# Altium integrated library rcl.IntLib: 40 symbols
Pins are listed as number, name and electrical type; pins without a type are passive.

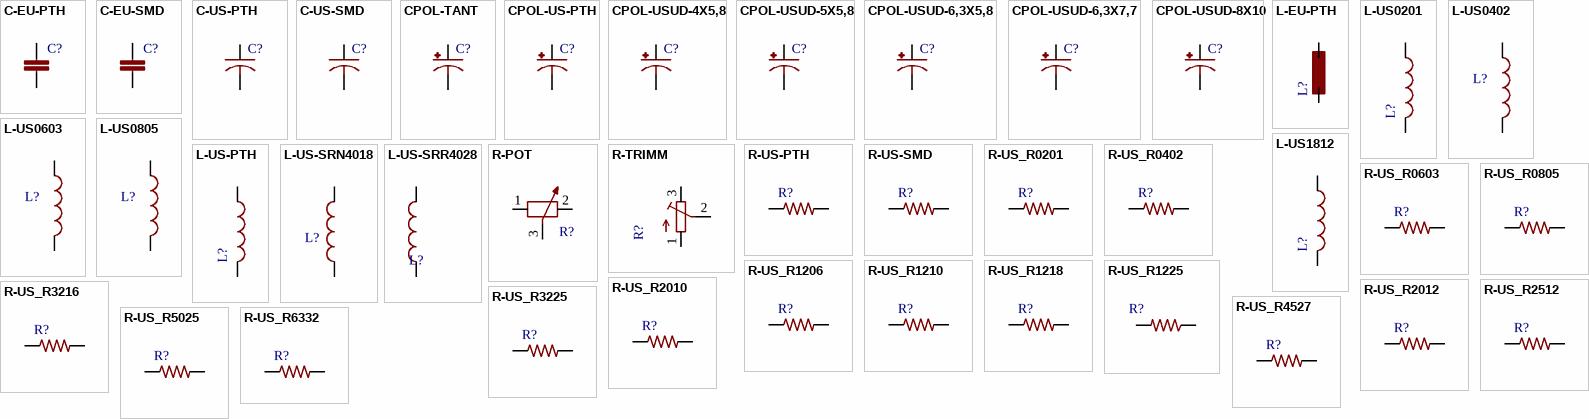
[diagram p0: symbols C-EU-PTH to R-US_R6332]

## C-EU-PTH
designator C?
Generic Capacitor PTH
footprint C025-024X044
pins: 1, 2

## C-EU-SMD
designator C?
Generic Capacitor SMD
footprint C0201
footprint C0402 - rounded
footprint C0603
footprint C0402
footprint C0603 - rounded
footprint C0805
footprint C0805 - rounded
footprint C1206
pins: 1, 2

## C-US-PTH
designator C?
Generic Capacitor PTH
footprint C025-024X044
pins: 1, 2

## C-US-SMD
designator C?
Generic Capacitor SMD
footprint C0201
pins: 1, 2

## CPOL-TANT
designator C?
Generic Tantalum Capacitor
footprint 085CS_1AR
pins: +, -

## CPOL-US-PTH
designator C?
Genereric Polarized Capacitor PTH
footprint E1,8-4
pins: +, -

## CPOL-USUD-4X5,8
designator C?
Electrolitic Capacitor SMD
footprint UD-4X5,8_NICHICON
pins: +, -

## CPOL-USUD-5X5,8
designator C?
Electrolitic Capacitor SMD
footprint UD-5X5,8_NICHICON
pins: +, -

## CPOL-USUD-6,3X5,8
designator C?
Electrolitic Capacitor SMD
footprint UD-6,3X5,8_NICHICON
pins: +, -

## CPOL-USUD-6,3X7,7
designator C?
Electrolitic Capacitor SMD
footprint UD-6,3X7,7_NICHICON
pins: +, -

## CPOL-USUD-8X10
designator C?
Electrolitic Capacitor SMD
footprint UD-8X10_NICHICON
pins: +, -

## L-EU-PTH
designator L?
footprint 0204/5
pins: 1, 2

## L-US0201
designator L?
footprint L0201
pins: 1, 2

## L-US0402
designator L?, comment Ferrite bead 0402  (value not drawn)
footprint L0402 - rounded
pins: 1, 2

## L-US0603
designator L?, comment Ferrite bead 0603  (value not drawn)
footprint L0603
pins: 1, 2

## L-US0805
designator L?, comment Ferrite bead 0603  (value not drawn)
footprint L0805
pins: 1, 2

## L-US1812
designator L?
footprint L1812
pins: 1, 2

## L-US-PTH
designator L?
footprint 0204/5
footprint L-PTH-12x9.5
pins: 1, 2

## L-US-SRN4018
designator L?  (value not drawn)
Semi-shielded Power Inductors
footprint SRN4018 (Semi-shielded Power Inductors)
footprint SRN5020 (Semi-shielded Power Inductors)
footprint SRN6045
footprint SRN8040 (Semi-shielded Power Inductors)
pins: 1, 2

## L-US-SRR4028
designator L?  (value not drawn)
Semi-shielded Power Inductors; Part Number: SRR-4028-XXXX; Vendor: Bourns
footprint SRR4028 (Semi-shielded Power Inductors)
pins: 1, 2

## R-POT
designator R?
footprint PT-10
footprint PT-10S
pins: 1, 2, 3

## R-TRIMM
designator R?
footprint RTRIM4G/J
footprint RTRIM3386 (1/2W, 10% Tolerance, Square Trimmer Potentiometers)
pins: 1 A, 2 S, 3 E

## R-US-PTH
designator R?
Generic Resistor PTH
footprint 0204V
pins: 1, 2

## R-US-SMD
designator R?
Generic Resistor SMD
footprint R0201
footprint R0402
footprint R0603
footprint R0805 - rounded
footprint R0603 - rounded
footprint R0402 - rounded
footprint R1210
footprint R0805W
footprint R1206
pins: 1, 2

## R-US_R0201
designator R?
Resistor SMD 0201
footprint R0201
pins: 1, 2

## R-US_R0402
designator R?
Resistor SMD 0402
footprint R0402
footprint R0402 - rounded
pins: 1, 2

## R-US_R0603
designator R?
Resistor SMD 0603
footprint R0603
footprint R0603 - rounded
pins: 1, 2

## R-US_R0805
designator R?
Resistor SMD 0805
footprint R0805
footprint R0805 - rounded
pins: 1, 2

## R-US_R1206
designator R?
Resistor SMD 1206
footprint R1206
pins: 1, 2

## R-US_R1210
designator R?
Resistor SMD 1210
footprint R1210
pins: 1, 2

## R-US_R1218
designator R?
Resistor SMD 1218
footprint R1218
pins: 1, 2

## R-US_R1225
designator R?
Resistor SMD 1225
footprint R1225
pins: 1, 2

## R-US_R2010
designator R?
Resistor SMD 2010
footprint R2010
pins: 1, 2

## R-US_R2012
designator R?
Resistor SMD 2012
footprint R2012
pins: 1, 2

## R-US_R2512
designator R?
Resistor SMD 2512
footprint R2512_SHUNT
pins: 1, 2

## R-US_R3216
designator R?
Resistor SMD 3216
footprint R3216
pins: 1, 2

## R-US_R3225
designator R?
Resistor SMD 3225
footprint R3225
pins: 1, 2

## R-US_R4527
designator R?
Resistor SMD 4527
footprint R4527
pins: 1, 2

## R-US_R5025
designator R?
Resistor SMD 5025
footprint R5025
pins: 1, 2

## R-US_R6332
designator R?
Resistor SMD 6332
footprint R6332
pins: 1, 2